# Altium schematic symbol library LED Backlight.Schlib: 1 symbol
Pins are listed as number, name and electrical type; pins without a type are passive.

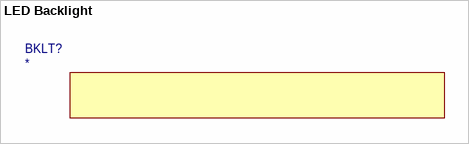
[diagram p0: symbol LED Backlight]

## LED Backlight
designator BKLT?  (mechanical)